# EAGLE library part Q_ATMEGA328P (library MRDT-2014-All)
ATMEGA 328P in 28PIN PDIP package
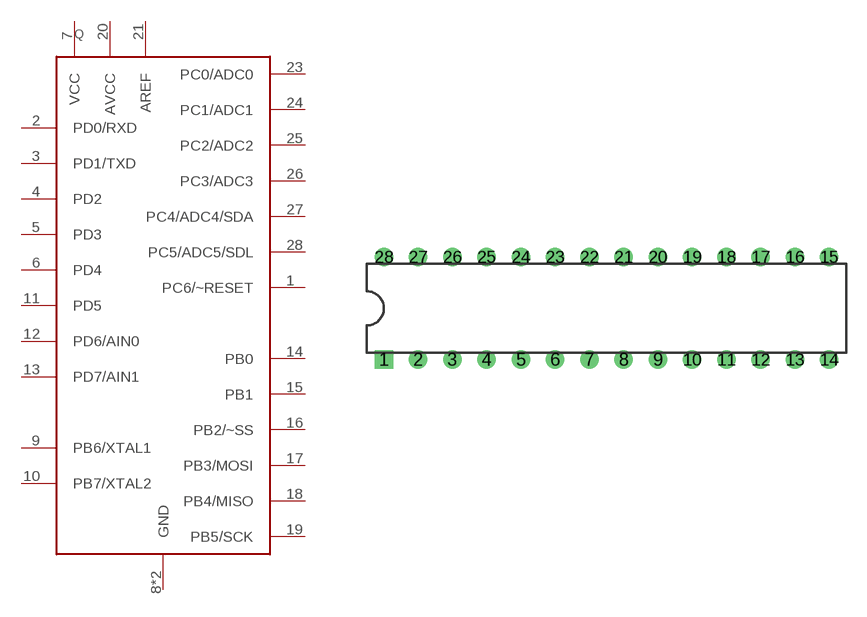
[diagram p6: symbol with the pads of DIP28; footprint DIP28]

Designator prefix Q

## Q_ATMEGA328P  [DIP28]
1  PC6/~RESET
2  PD0/RXD
3  PD1/TXD
4  PD2
5  PD3
6  PD4
7  VCC
8  GND
9  PB6/XTAL1
10  PB7/XTAL2
11  PD5
12  PD6/AIN0
13  PD7/AIN1
14  PB0
15  PB1
16  PB2/~SS
17  PB3/MOSI
18  PB4/MISO
19  PB5/SCK
20  AVCC
21  AREF
22  GND
23  PC0/ADC0
24  PC1/ADC1
25  PC2/ADC2
26  PC3/ADC3
27  PC4/ADC4/SDA
28  PC5/ADC5/SDL

## Footprint DIP28 (pad centres in mm)
drill 0.864 square: 1 -16.51,-3.81
drill 0.864: 2 -13.97,-3.81; 3 -11.43,-3.81; 4 -8.89,-3.81; 5 -6.35,-3.81; 6 -3.81,-3.81; 7 -1.27,-3.81; 8 1.27,-3.81; 9 3.81,-3.81; 10 6.35,-3.81; 11 8.89,-3.81; 12 11.43,-3.81; 13 13.97,-3.81; 14 16.51,-3.81; 15 16.51,3.81; 16 13.97,3.81; 17 11.43,3.81; 18 8.89,3.81; 19 6.35,3.81; 20 3.81,3.81; 21 1.27,3.81; 22 -1.27,3.81; 23 -3.81,3.81; 24 -6.35,3.81; 25 -8.89,3.81; 26 -11.43,3.81; 27 -13.97,3.81; 28 -16.51,3.81